# Altium footprint library DFN.PcbLib: 1 footprints
Each footprint in its own frame and in the unit in brackets; x right, y up, seen from the top. Pads: shape width x height; smd on the part's side, far side on the other; paste and mask are expansions set on the pad; w line width, h text height; cw(c..) or ccw(c..) is an arc to the next point about the centre after c.
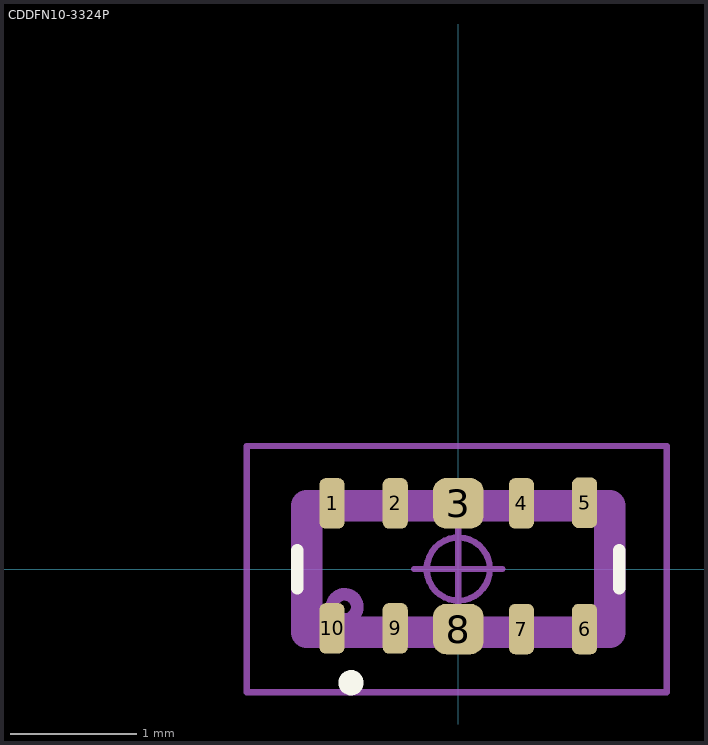
[diagram p0: the footprint, top view; thin cyan lines are the x and y axes]

## CDDFN10-3324P [mm] "Surface Mount TVS Diode Array"
height 0.5
pads (10):
  rrect51% 0.2x0.4 smd: 1(-1,0.52) 2(-0.5,0.52) 4(0.5,0.52) 5(1,0.525) 6(1,-0.475) 7(0.5,-0.475) 9(-0.5,-0.47) 10(-1,-0.47)
  rrect51% 0.4x0.4 smd: 3(0,0.52) 8(0,-0.475)
Top Layer:
  pour cut-out: -3.302,4.064
Top Overlay:
  circle w0.1: c-0.85,-0.9 r0.05
  lines w0.1: -1.275,-0.15 -1.275,0.15 ; 1.275,-0.15 1.275,0.15
Top Assembly:
  circle w0.1: c-0.9,-0.3 r0.1
  lines w0.25: -1.2,-0.5 1.2,-0.5 1.2,0.5 0.794,0.5 -0.769,0.5 -1.2,0.5 -1.2,0.25 -1.2,-0.25 -1.2,-0.5
  text ".Designator" at -1.2,-0.3 h1
Top Courtyard:
  circle w0.05: c0,0 r0.25
  lines w0.05: -0.35,0 0.35,0 ; 0,-0.35 0,0.35 ; -1.675,-0.975 -1.675,0.975 1.65,0.975 1.65,-0.975 -1.675,-0.975
3D body "cddfn10-3324p.STEP": height 0.5, standoff 0, extent -1.25,-0.55 1.25,0.55